# EAGLE library part TDF8530TH (library Audio-Power-amlifier V.2.0)
The TDF8530 is a quad Bridge-Tied Load (BTL) car audio amplifier comprising an NDMOST-NDMOST output stage based on SOI BCDMOS technology. Low power dissipation enables the TDF8530 high-efficiency, class-D amplifier to be used with a smaller heat sink than those normally used with standard class-AB amplifiers. The TDF8530 can operate in either non-I2C-bus mode or I2C-bus mode. When in I2C-bus mode, DC load detection results and fault conditions can be easily read back from the device. Up to 12 I2C-bus addresses can be selected depending on the value of the external resistors connected to pins ADS and MOD. When pin ADS is short circuited to ground, the TDF8530 operates in non-I2C-bus mode. Switching between Operating mode and Mute mode in non-I2C-bus mode is only possible using pins EN and SEL_MUTE.
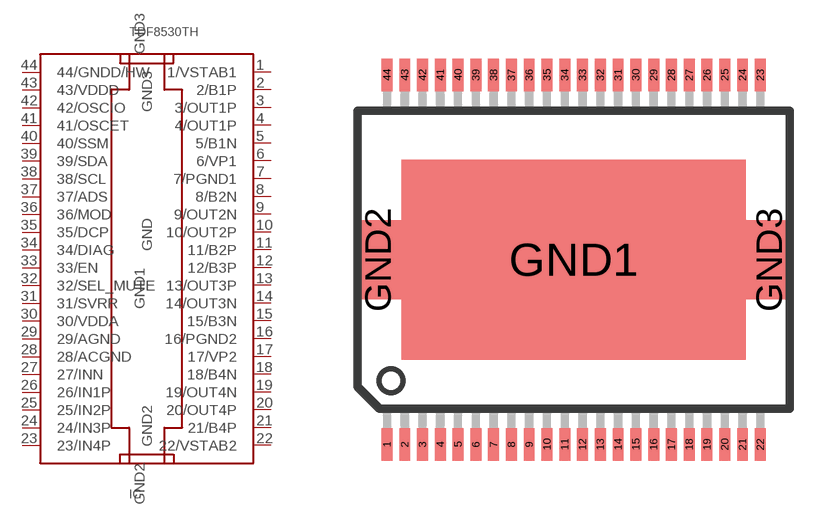
[diagram p72: symbol with the pads of HSOP44; footprint HSOP44]

Designator prefix IC

## TDF8530TH  [HSOP44]
1  1/VSTAB1
2  2/B1P
3  3/OUT1P  out
4  4/OUT1P  out
5  5/B1N
6  6/VP1  pwr
7  7/PGND1  pwr
8  8/B2N
9  9/OUT2N  out
10  10/OUT2P  out
11  11/B2P
12  12/B3P
13  13/OUT3P  out
14  14/OUT3N  out
15  15/B3N
16  16/PGND2  pwr
17  17/VP2  pwr
18  18/B4N
19  19/OUT4N  out
20  20/OUT4P  out
21  21/B4P
22  22/VSTAB2
23  23/IN4P  in
24  24/IN3P  in
25  25/IN2P  in
26  26/IN1P  in
27  27/INN
28  28/ACGND  pwr
29  29/AGND  pwr
30  30/VDDA  pwr
31  31/SVRR
32  32/SEL_MUTE
33  33/EN
34  34/DIAG
35  35/DCP
36  36/MOD
37  37/ADS
38  38/SCL
39  39/SDA
40  40/SSM
41  41/OSCET
42  42/OSCIO
43  43/VDDD  pwr
44  44/GNDD/HW  pwr
GND1  GND  pwr
GND2  GND2
GND3  GND3

## Footprint HSOP44 (pad centres in mm)
44 LEAD HSOP W/PROTRUDING HEADSINK Source: http://www.freescale.com/files/shared/doc/package_info/98ARH98330A.pdf
smd 0.4 x 1.2: 1 -6.825,-6.75; 2 -6.175,-6.75; 3 -5.525,-6.75; 4 -4.875,-6.75; 5 -4.225,-6.75; 6 -3.575,-6.75; 7 -2.925,-6.75; 8 -2.275,-6.75; 9 -1.625,-6.75; 10 -0.975,-6.75; 11 -0.325,-6.75; 12 0.325,-6.75; 13 0.975,-6.75; 14 1.625,-6.75; 15 2.275,-6.75; 16 2.925,-6.75; 17 3.575,-6.75; 18 4.225,-6.75; 19 4.875,-6.75; 20 5.525,-6.75; 21 6.175,-6.75; 22 6.825,-6.75; 23 6.825,6.75; 24 6.175,6.75; 25 5.525,6.75; 26 4.875,6.75; 27 4.225,6.75; 28 3.575,6.75; 29 2.925,6.75; 30 2.275,6.75; 31 1.625,6.75; 32 0.975,6.75; 33 0.325,6.75; 34 -0.325,6.75; 35 -0.975,6.75; 36 -1.625,6.75; 37 -2.275,6.75; 38 -2.925,6.75; 39 -3.575,6.75; 40 -4.225,6.75; 41 -4.875,6.75; 42 -5.525,6.75; 43 -6.175,6.75; 44 -6.825,6.75
smd 12.6 x 7.3: GND1 0,0
smd 1.7 x 2.9: GND2 -7.15,0; GND3 7.15,0